# EAGLE library part G320X (library fcch_eagle_parts_metal_mill)
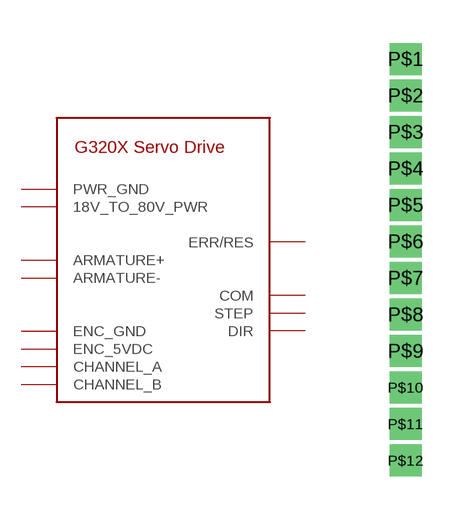
[diagram p1: symbol with the pads of G320X; footprint G320X]

Designator prefix -

## G320X  [G320X]
P$1  PWR_GND
P$2  18V_TO_80V_PWR
P$3  ARMATURE-
P$4  ARMATURE+
P$5  ERR/RES
P$6  ENC_GND
P$7  ENC_5VDC
P$8  CHANNEL_A
P$9  CHANNEL_B
P$10  DIR
P$11  STEP
P$12  COM

## Footprint G320X (pad centres in mm)
drill 0.6 square: P$1 0,6.35; P$2 0,5.08; P$3 0,3.81; P$4 0,2.54; P$5 0,1.27; P$6 0,0; P$7 0,-1.27; P$8 0,-2.54; P$9 0,-3.81; P$10 0,-5.08; P$11 0,-6.35; P$12 0,-7.62